# Altium schematic symbol library Renesas.SchLib: 1 symbol
Pins are listed as number, name and electrical type; pins without a type are passive.

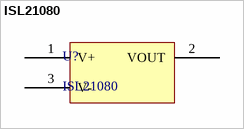
[diagram p0: symbol ISL21080]

## ISL21080
designator U?
pins: 1 V+, 2 VOUT, 3 V-